# Altium schematic symbol library Schlib1.SchLib: 9 symbols
Pins are listed as number, name and electrical type; pins without a type are passive.

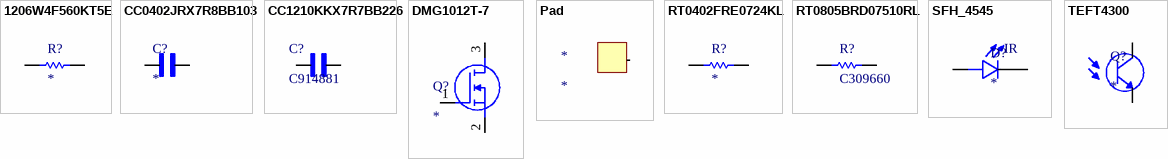
[diagram p0: symbols 1206W4F560KT5E to TEFT4300]

## 1206W4F560KT5E
designator R?
5.6 Ohm 1/4W Thick Film Resistor 1206 Chip - Surface Mount; MF: Uni-Royal; MP: 1206W4F560KT5E; SnapEDA_Link: https://www.snapeda.com/parts/1206W4F560KT5E/Uni-Royal/view-part/?ref=snap; Package: 1206-2 ROYAL; Value: *; Check_prices: https://www.snapeda.com/parts/1206W4F560KT5E/Uni-Royal/view-part/?ref=eda
footprint RESC3115X65N
pins: 1, 2

## CC0402JRX7R8BB103
designator C?
10000 pF Â±5% 25V Ceramic Capacitor X7R 0402 (1005 Metric); MF: Yageo; MP: CC0402JRX7R8BB103; SnapEDA_Link: https://www.snapeda.com/parts/CC0402JRX7R8BB103/Yageo/view-part/?ref=snap; Package: 0402 Yageo; Value: *; Check_prices: https://www.snapeda.com/parts/CC0402JRX7R8BB103/Yageo/view-part/?ref=eda
footprint CAPC1005X55N
pins: 1, 2

## CC1210KKX7R7BB226
designator C?, comment C914881
Description; Manufacturer_Name: Yageo; Manufacturer_Part_Number: CC1210KKX7R7BB226; Copyright: Copyright (C) 2026 Ultra Librarian. All rights reserved.
footprint CAP_CC1210_YAG
pins: 1, 2

## DMG1012T-7
designator Q?
MOSFET N-Channel 20V 0.63A SOT523 | Diodes Inc DMG1012T-7; MF: Diodes Inc.; SnapEDA_Link: https://www.snapeda.com/parts/DMG1012T-7/Diodes+Inc./view-part/?ref=snap; Package: SOT-523 Diodes Inc.; Value: *; MP: DMG1012T-7; Check_prices: https://www.snapeda.com/parts/DMG1012T-7/Diodes+Inc./view-part/?ref=eda
footprint SOT50P160X90-3N
pins: 1 G (io), 2 S (io), 3 D (io)

## Pad
designator *
footprint PCBComponent_1
pins: 1

## RT0402FRE0724KL
designator R?
RT Series 0402 0.063 W 24 kOhm Â±1 % Â±50 ppm/Â°C SMT Thin Film Chip Resistor; MF: Yageo; MP: RT0402FRE0724KL; SnapEDA_Link: https://www.snapeda.com/parts/RT0402FRE0724KL/Yageo/view-part/?ref=snap; Package: 1005 Yageo; Value: *; Check_prices: https://www.snapeda.com/parts/RT0402FRE0724KL/Yageo/view-part/?ref=eda
footprint RESC1005X35N
pins: 1, 2

## RT0805BRD07510RL
designator R?, comment C309660
5.6 Ohm 1/4W Thick Film Resistor 1206 Chip - Surface Mount; MF: Uni-Royal; MP: 1206W4F560KT5E; SnapEDA_Link: https://www.snapeda.com/parts/1206W4F560KT5E/Uni-Royal/view-part/?ref=snap; Package: 1206-2 ROYAL; Value: *; Check_prices: https://www.snapeda.com/parts/1206W4F560KT5E/Uni-Royal/view-part/?ref=eda
footprint RESC2012X60N
pins: 1, 2

## SFH_4545
designator D?
Infrared (IR) Emitter 950nm 1.5V 100mA 550mW/sr @ 100mA 10Â° Radial; MF: OSRAM Opto; SnapEDA_Link: https://www.snapeda.com/parts/SFH%204545/OSRAM/view-part/?ref=snap; Package: None; Value: *; MP: SFH 4545; Check_prices: https://www.snapeda.com/parts/SFH%204545/OSRAM/view-part/?ref=eda
footprint DIO_SFH_4545
pins: A, C
text: IR

## TEFT4300
designator Q?
Phototransistors 925nm Top View Radial, 3mm Dia (T-1); MF: Vishay Semiconductor; MP: TEFT4300; SnapEDA_Link: https://www.snapeda.com/parts/TEFT4300/Vishay/view-part/?ref=snap; Package: None; Value: *; Check_prices: https://www.snapeda.com/parts/TEFT4300/Vishay/view-part/?ref=eda
footprint XDCR_TEFT4300
pins: C, E